# EAGLE library part MEGAWING_HALF_P1 (library Papilio)
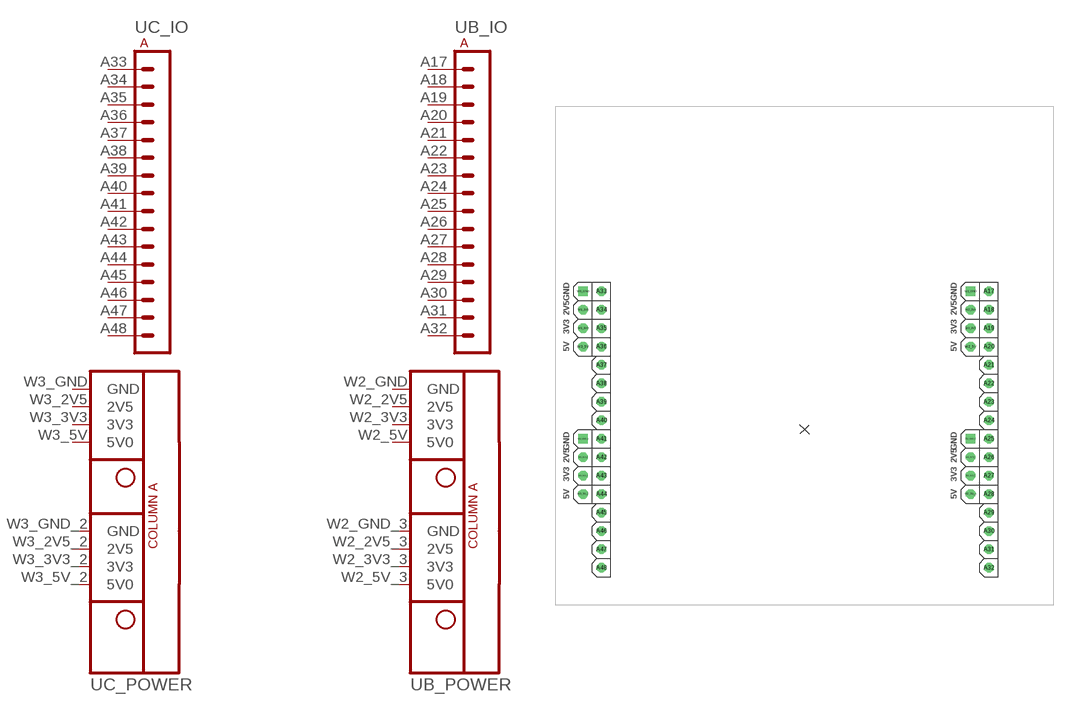
[diagram p8: symbol with the pads of MEGAWING_HALF_NOHOLES_P1; footprint MEGAWING_HALF_NOHOLES_P1]

Designator prefix -; gates C_IO=WING16_IO C_POWER=WING16_POWER B_IO=WING16_IO B_POWER=WING16_POWER

## MEGAWING_HALF_P1  [MEGAWING_HALF_NOHOLES_P1]
A17  B_IO:A1
A18  B_IO:A2
A19  B_IO:A3
A20  B_IO:A4
A21  B_IO:A5
A22  B_IO:A6
A23  B_IO:A7
A24  B_IO:A8
A25  B_IO:A9
A26  B_IO:A10
A27  B_IO:A11
A28  B_IO:A12
A29  B_IO:A13
A30  B_IO:A14
A31  B_IO:A15
A32  B_IO:A16
A33  C_IO:A1
A34  C_IO:A2
A35  C_IO:A3
A36  C_IO:A4
A37  C_IO:A5
A38  C_IO:A6
A39  C_IO:A7
A40  C_IO:A8
A41  C_IO:A9
A42  C_IO:A10
A43  C_IO:A11
A44  C_IO:A12
A45  C_IO:A13
A46  C_IO:A14
A47  C_IO:A15
A48  C_IO:A16
W2_2V5  B_POWER:2V5  pas
W2_2V5_3  B_POWER:2V5  pas
W2_3V3  B_POWER:3V3  pas
W2_3V3_3  B_POWER:3V3  pas
W2_5V  B_POWER:5V0  pas
W2_5V_3  B_POWER:5V0  pas
W2_GND  B_POWER:GND  pwr
W2_GND_3  B_POWER:GND  pwr
W3_2V5  C_POWER:2V5  pas
W3_2V5_2  C_POWER:2V5  pas
W3_3V3  C_POWER:3V3  pas
W3_3V3_2  C_POWER:3V3  pas
W3_5V  C_POWER:5V0  pas
W3_5V_2  C_POWER:5V0  pas
W3_GND  C_POWER:GND  pwr
W3_GND_2  C_POWER:GND  pwr

## Footprint MEGAWING_HALF_NOHOLES_P1 (pad centres in mm)
drill 0.8 octagon: A17 59.69,43.18; A18 59.69,40.64; A19 59.69,38.1; A20 59.69,35.56; A21 59.69,33.02; A22 59.69,30.48; A23 59.69,27.94; A24 59.69,25.4; A25 59.69,22.86; A26 59.69,20.32; A27 59.69,17.78; A28 59.69,15.24; A29 59.69,12.7; A30 59.69,10.16; A31 59.69,7.62; A32 59.69,5.08; A33 6.35,43.18; A34 6.35,40.64; A35 6.35,38.1; A36 6.35,35.56; A37 6.35,33.02; A38 6.35,30.48; A39 6.35,27.94; A40 6.35,25.4; A41 6.35,22.86; A42 6.35,20.32; A43 6.35,17.78; A44 6.35,15.24; A45 6.35,12.7; A46 6.35,10.16; A47 6.35,7.62; A48 6.35,5.08; W2_2V5 57.15,40.64; W2_2V5_3 57.15,20.32; W2_3V3 57.15,38.1; W2_3V3_3 57.15,17.78; W2_5V 57.15,35.56; W2_5V_3 57.15,15.24; W3_2V5 3.81,40.64; W3_2V5_2 3.81,20.32; W3_3V3 3.81,38.1; W3_3V3_2 3.81,17.78; W3_5V 3.81,35.56; W3_5V_2 3.81,15.24
drill 0.8 square: W2_GND 57.15,43.18; W2_GND_3 57.15,22.86; W3_GND 3.81,43.18; W3_GND_2 3.81,22.86